# EAGLE library part RN4871 (library justinloundagin)
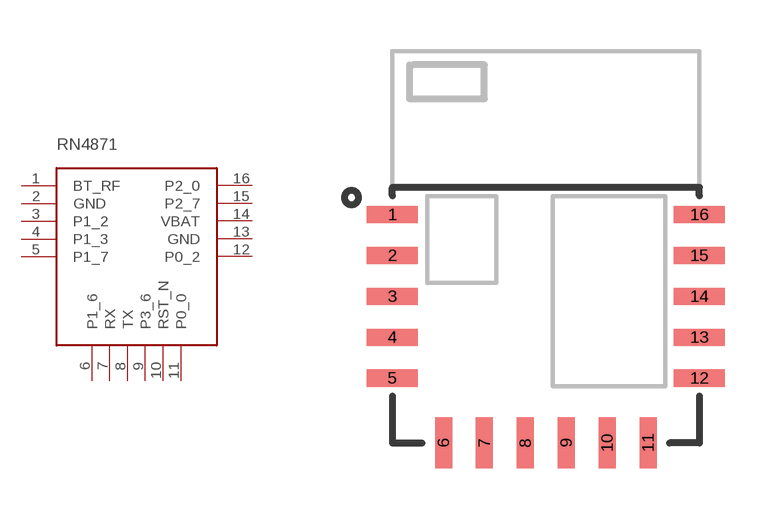
[diagram p1: symbol with the pads of RN4871; footprint RN4871]

Designator prefix -

## RN4871RN4871  [RN4871]
1  BT_RF
2  GND
3  P1_2
4  P1_3
5  P1_7
6  P1_6
7  RX
8  TX
9  P3_6
10  RST_N
11  P0_0
12  P0_2
13  GND
14  VBAT
15  P2_7
16  P2_0

## Footprint RN4871 (pad centres in mm)
smd 1.5 x 0.5: 1 -3.81,2.89; 2 -3.81,1.69; 3 -3.81,0.49; 4 -3.81,-0.71; 5 -3.81,-1.91; 12 5.19,-1.91; 13 5.19,-0.71; 14 5.19,0.49; 15 5.19,1.69; 16 5.19,2.89
smd 0.5 x 1.5: 6 -2.31,-3.81; 7 -1.11,-3.81; 8 0.09,-3.81; 9 1.29,-3.81; 10 2.49,-3.81; 11 3.69,-3.81